# Altium schematic symbol library CHM_CPU_FPGA_ROMLIB.SchLib: 1 symbol
Pins are listed as number, name and electrical type; pins without a type are passive.

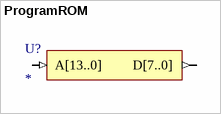
[diagram p0: symbol ProgramROM]

## ProgramROM
designator U?
Publisher: Altium; Published: 2011-06-27
pins: A[13..0] (in), D[7..0] (out)